# Altium footprint library SW_SP112.PcbLib: 1 footprints
Each footprint in its own frame and in the unit in brackets; x right, y up, seen from the top. Pads: shape width x height; smd on the part's side, far side on the other; paste and mask are expansions set on the pad; w line width, h text height; cw(c..) or ccw(c..) is an arc to the next point about the centre after c.
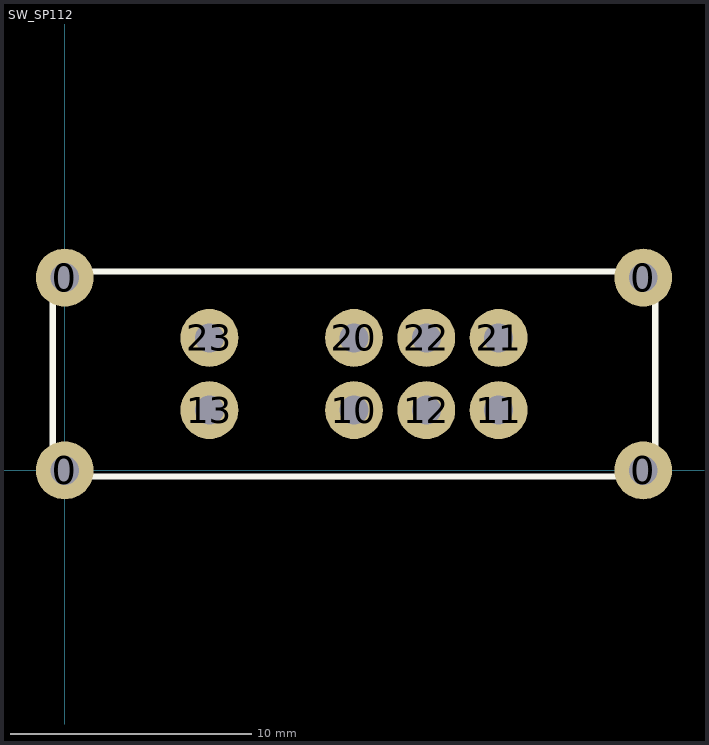
[diagram p0: the footprint, top view; thin cyan lines are the x and y axes]

## SW_SP112 [mm] "2P3T switch"
pads (12):
  round 2.4 hole 1.2: 0(0,0) 0(0,8) 0(24,0) 0(24,8) 10(12,2.5) 11(18,2.5) 12(15,2.5) 13(6,2.5) 20(12,5.5) 21(18,5.5) 22(15,5.5) 23(6,5.5)
Top Overlay:
  lines w0.254: -0.5,-0.25 -0.5,8.25 24.5,8.25 24.5,-0.25 -0.5,-0.25
3D body: height 11.5, standoff 0, extent -0.5,-0.25 24.5,8.25